# EAGLE library part DIP-BLACK-FEMALE-HEADER-VERT(10P-2.0) (library OPL_Connector)
320030009
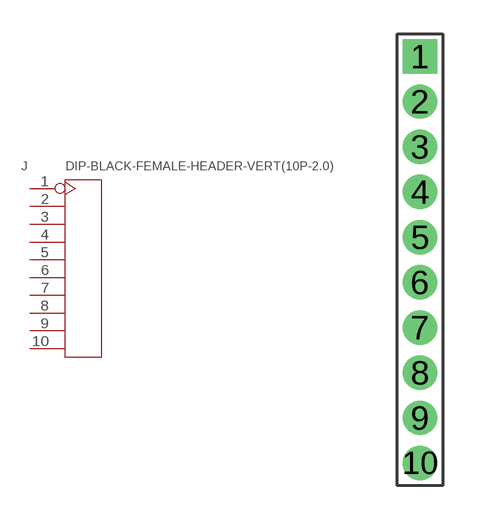
[diagram p24: symbol with the pads of H10-2.0; footprint H10-2.0]

Designator prefix J

## DIP-BLACK-FEMALE-HEADER-VERT(10P-2.0) (MPN: F243-1110A1BSUA1; VALUE: 10p-2.0)  [H10-2.0]
1  1
2  2
3  3
4  4
5  5
6  6
7  7
8  8
9  9
10  10

## Footprint H10-2.0 (pad centres in mm)
drill 0.813 pad 1.524 square: 1 0,9
drill 0.813 pad 1.524: 2 0,7; 3 0,5; 4 0,3; 5 0,1; 6 0,-1; 7 0,-3; 8 0,-5; 9 0,-7; 10 0,-9